# Altium schematic symbol library L.SchLib: 25 symbols
Pins are listed as number, name and electrical type; pins without a type are passive.

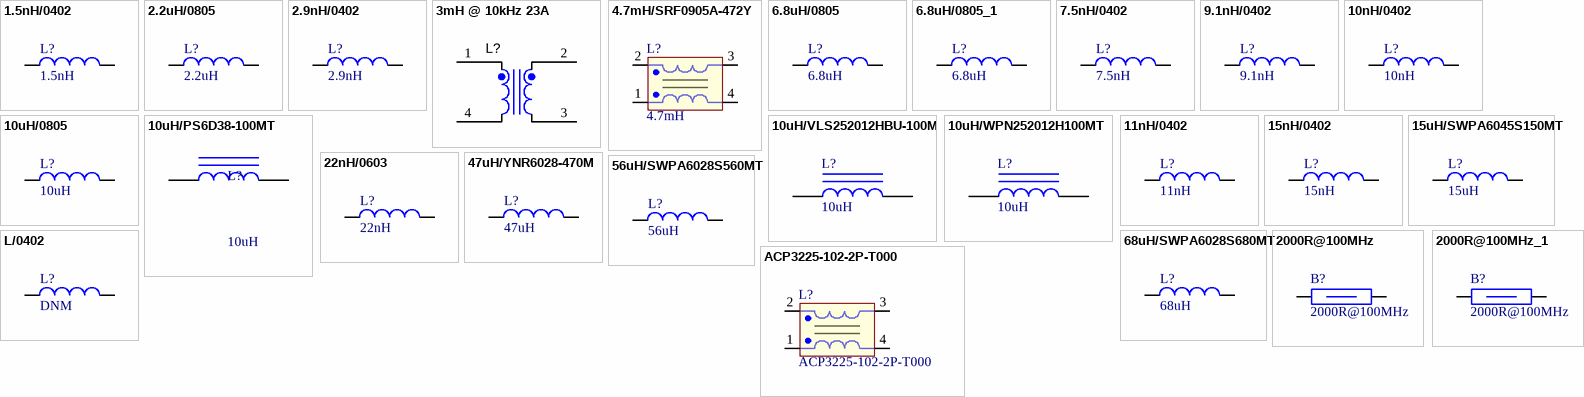
[diagram p0: symbols 1.5nH/0402 to L/0402]

## 1.5nH/0402
designator L?, comment 1.5nH
高频电感 / 精度 ±0.3nH / 额定电流 1A / 直流电阻（内阻） 100mΩ / 电感值 1.5nH; Manufacturer: muRata(村田); Code: LQG15HS1N5S02D; CompType: Inductor; DistributorCode: C77106; Package: 0402; A_Manufacturer: -; A_Code: -; A_ComType: -
footprint S0402L
pins: 1, 2

## 2.2uH/0805
designator L?, comment 2.2uH
精度 ±20% / 额定电流 800mA / 直流电阻（内阻） 230mΩ / 电感值 2.2uH; Manufacturer: TDK; A_Manufacturer: 振华富; Code: MLP2012S2R2MT0S1; A_Code: PI2012F2R2; CompType: Inductor; DistributorCode: C107322; Package: 0805; A_ComType: -
footprint S0805L (Footprint not found)
pins: 1, 2

## 2.9nH/0402
designator L?, comment 2.9nH
精度 ±0.2nH / 额定电流 750mA / 直流电阻（内阻） 70mΩ / 电感值 2.9nH; Manufacturer: muRata(村田); Code: LQW15AN2N9C00D; CompType: Inductor; DistributorCode: C167475; Package: 0402; A_Manufacturer: -; A_Code: -; A_ComType: -
footprint S0402L
pins: 1, 2

## 3mH @ 10kHz 23A
designator L?, comment 7448052303  (value not drawn)
3mH @ 10kHz 23A; Manufacturer: Wurth Elektronik; CompType: 共模电感; DistributorCode: C1534084; Package: Through-Hole
footprint WE-CMBNC_XL
pins: 1, 2, 3, 4
1 alternate drawing of the same symbol

## 4.7mH/SRF0905A-472Y
designator L?, comment 4.7mH
4.7mH±50％,IDC=0.4A,VDC=80V,DCR=0.9ΩMax,L*W*H=9.2*6.0*5.0mm,-40℃～105℃; Manufacturer: BOURNS; Code: SRF0905A-472Y; CompType: Inductor; DistributorCode: C113524; Package: SFLT4_9.2*6.0; A_Code: -; A_ComType: -; A_Manufacturer: -
footprint SFLT4_9.2*6.0
pins: 1, 2, 3, 4

## 6.8uH/0805
designator L?, comment 6.8uH
精度 ±10% / 电感值 6.8uH / 直流电阻（内阻） 250mΩ / 额定电流 250mA; Manufacturer: FH(风华); A_Manufacturer: 振华富; Code: CMP201209XD6R8KT; A_Code: PI2012F6R8; CompType: Inductor; DistributorCode: C139247; Package: 0805; A_ComType: -
footprint S0805L (Footprint not found)
pins: 1, 2

## 6.8uH/0805_1
designator L?, comment 6.8uH
精度 ±20% / 电感值 6.8uH / 直流电阻（内阻） 400mΩ / 额定电流 220mA; Manufacturer: TDK; A_Manufacturer: 振华富; Code: MLZ2012M6R8HT000; A_Code: PI2012F6R8; CompType: Inductor; DistributorCode: C524463; Package: 0805; A_ComType: -
footprint S0805L (Footprint not found)
pins: 1, 2

## 7.5nH/0402
designator L?, comment 7.5nH
精度 ±2% / 额定电流 570mA / 直流电阻（内阻） 130mΩ / 电感值 7.5nH; Manufacturer: muRata(村田); Code: LQW15AN7N5G00D; CompType: Inductor; DistributorCode: C82918; Package: 0402; A_Manufacturer: -; A_Code: -; A_ComType: -
footprint S0402L
pins: 1, 2

## 9.1nH/0402
designator L?, comment 9.1nH
精度 ±2% / 额定电流 540mA / 直流电阻（内阻） 140mΩ / 电感值 9.1nH; Manufacturer: muRata(村田); Code: LQW15AN9N1G00D; CompType: Inductor; DistributorCode: C113122; Package: 0402; A_Manufacturer: -; A_Code: -; A_ComType: -
footprint S0402L
pins: 1, 2

## 10nH/0402
designator L?, comment 10nH
精度 ±5% / 额定电流 500mA / 直流电阻（内阻） 170mΩ / 电感值 10nH; Manufacturer: muRata(村田); Code: LQW15AN10NJ00D; CompType: Inductor; DistributorCode: C184029; Package: 0402; A_Manufacturer: -; A_Code: -; A_ComType: -
footprint S0402L
pins: 1, 2

## 10uH/0805
designator L?, comment 10uH
精度 ±20% / 额定电流 1A / 直流电阻（内阻） 375mΩ / 电感值 10uH; Manufacturer: Sunlord(顺络); A_Manufacturer: 振华富; Code: MPH201214S100MT; CompType: Inductor; DistributorCode: C192450; Package: 0805; A_Code: -; A_ComType: -
footprint S0805L (Footprint not found)
pins: 1, 2

## 10uH/PS6D38-100MT
designator L?, comment 10uH
功率电感 / 精度 ±20% / 额定电流 2A / 直流电阻（内阻） 48mΩ / 电感值 10uH; Manufacturer: FH(风华); Code: PS6D38-100MT; DistributorCode: C20127; ComType: 功率电感; Package: SMD,6.7x6.7x3.8mm
footprint DIP-4 (DIP; 4 Leads; Row Spacing 7.62 mm; Pitch 2.54 mm)
pins: 1, 2

## 10uH/VLS252012HBU-100M
designator L?, comment 10uH
精度 ±20% / 电感值 10uH / 直流电阻（内阻） 560mΩ / 额定电流 800mA; Manufacturer: TDK; Code: VLS252012HBU-100M; CompType: 功率电感; DistributorCode: C434844; Package: SMD,2.5x2.0x1.2mm; A_Code: -; A_Manufacturer: -; A_ComType: -
footprint 2.5*2.0*1.2
pins: 1, 2

## 10uH/WPN252012H100MT
designator L?, comment 10uH
精度 ±20% / 额定电流 850mA / 直流电阻（内阻） 480mΩ / 电感值 10uH; Manufacturer: Sunlord(顺络); Code: WPN252012H100MT; CompType: 功率电感; DistributorCode: C98353; Package: SMD,2.5x2.0x1.2mm; A_Code: -; A_Manufacturer: -; A_ComType: -
footprint 2.5*2.0*1.2
pins: 1, 2

## 11nH/0402
designator L?, comment 11nH
精度 ±2% / 额定电流 500mA / 直流电阻（内阻） 140mΩ / 电感值 11nH; Manufacturer: muRata(村田); Code: LQW15AN11NG00D; CompType: Inductor; DistributorCode: C113109; Package: 0402; A_Manufacturer: -; A_Code: -; A_ComType: -
footprint S0402L
pins: 1, 2

## 15nH/0402
designator L?, comment 15nH
高频电感 / 精度 ±5% / 额定电流 450mA / 直流电阻（内阻） 320mΩ / 电感值 15nH; Manufacturer: muRata(村田); Code: LQG15HS15NJ02D; CompType: Inductor; DistributorCode: C86059; Package: 0402; A_Manufacturer: -; A_Code: -; A_ComType: -
footprint S0402L
pins: 1, 2

## 15uH/SWPA6045S150MT
designator L?, comment 15uH
封装：6x6x4.5mm  电感量：15μH ±20%  饱和电流：typ 2.7A  温升电流：typ 2.2A  自谐振频率：12MHz  直流电阻：0.068欧; Manufacturer: Sunlord(顺络); Code: SWPA6045S150MT; CompType: Inductor; DistributorCode: C83374; Package: SMD,6.0x6.0x4.5mm; A_Code: -; A_ComType: -; A_Manufacturer: -
simulation model INDUCTOR (Inductor)
signal-integrity model Inductor
footprint IND-SMD_L6.0-W6.0_SWPA6045S
pins: 1, 2

## 22nH/0603
designator L?, comment 22nH
电感徝 22nH±5% / 电感值测定频率 100MHz / 额定电流(Itemp) *根据温度上升 640mA / 直流电阻(最大) 0.099Ω / Q 以上 42 / Q 测定频率 250MHz / 自身谐振频率 (以上) 3200MHz / 工作温度范围（不含自身温度上升） -55℃ to 125℃; Manufacturer: muRata(村田); Code: LQW18AN22NJ10D; CompType: Inductor; DistributorCode: C701172; Package: 0603; A_Manufacturer: -; A_Code: -; A_ComType: -
footprint S0603L1
pins: 1, 2

## 47uH/YNR6028-470M
designator L?, comment 47uH
精度 ±20% / 电感值 47uH / 直流电阻（内阻） 315mΩ / 额定电流 1.06A; Manufacturer: YJYCOIN(益嘉源); Code: YNR6028-470M; CompType: Inductor; DistributorCode: C497831; Package: SMD,6.0x6.0x2.8mm; A_Code: -; A_ComType: -; A_Manufacturer: -
simulation model INDUCTOR (Inductor)
signal-integrity model Inductor
footprint IND-SMD_L6.0-W6.0_SWPA6045S
pins: 1, 2

## 56uH/SWPA6028S560MT
designator L?, comment 56uH
精度 ±20% / 额定电流 890mA / 直流电阻（内阻） 345mΩ / 电感值 56uH; Manufacturer: Sunlord(顺络); Code: SWPA6028S560MT; CompType: Inductor; DistributorCode: C96944; Package: SMD,6.0x6.0x2.8mm; A_Code: -; A_ComType: -; A_Manufacturer: -
simulation model INDUCTOR (Inductor)
signal-integrity model Inductor
footprint IND-SMD_L6.0-W6.0_SWPA6045S
pins: 1, 2

## 68uH/SWPA6028S680MT
designator L?, comment 68uH
精度 ±20% / 额定电流 860mA / 直流电阻（内阻） 360mΩ / 电感值 68uH; Manufacturer: Sunlord(顺络); Code: SWPA6028S680MT; CompType: Inductor; DistributorCode: C83460; Package: SMD,6.0x6.0x2.8mm; A_Code: -; A_ComType: -; A_Manufacturer: -
simulation model INDUCTOR (Inductor)
signal-integrity model Inductor
footprint IND-SMD_L6.0-W6.0_SWPA6045S
pins: 1, 2

## 2000R@100MHz
designator B?
阻抗 @ 频率 2kΩ @ 100MHz / 线路数 1 / 额定电流（最大） 200mA / 直流电阻（DCR）（最大） 800mΩ; Manufacturer: 振华富; Code: CB2012-202(f); CompType: Bead; DistributorCode: C316257; Package: 0805; A_Manufacturer: -; A_Code: -; A_ComType: -
footprint S0805L
pins: 1, 2

## 2000R@100MHz_1
designator B?, comment 2000R@100MHz
阻抗 @ 频率 2kΩ @ 100MHz / 线路数 1 / 额定电流（最大） 200mA / 直流电阻（DCR）（最大） 800mΩ; Manufacturer: TDK; Code: MMZ2012Y202BT000; CompType: Bead; DistributorCode: C76811; Package: 0805; A_Manufacturer: -; A_Code: -; A_ComType: -
footprint S0805L
pins: 1, 2

## ACP3225-102-2P-T000
designator L?
共模阻抗[Typ。] / 100MHz时为1kΩ / 共模阻抗[最小值] / 100MHz时为750Ω / 共模电感 / 1MHz时为4.1μH（参考） / 额定电流 / 1.5A / 额定电压 / 60VDC / 绝缘电阻[最小值] / 10兆欧 / 直流电阻 / 典型值50mΩ / 最大100mΩ; Manufacturer: TDK; CompType: Inductor; Code: ACP3225-102-2P-T000; DistributorCode: C92126; Package: 1210_4P; A_Code: -; A_ComType: -; A_Manufacturer: -
footprint 1210_4P
pins: 1, 2, 3, 4

## L/0402
designator L?, comment DNM
Manufacturer: muRata(村田); CompType: Inductor; Code: -; DistributorCode: -; Package: 0402; A_Manufacturer: -; A_Code: -; A_ComType: -
footprint S0402L
pins: 1, 2